# Altium footprint library 7464100.PcbLib: 1 footprints
Each footprint in its own frame and in the unit in brackets; x right, y up, seen from the top. Pads: shape width x height; smd on the part's side, far side on the other; paste and mask are expansions set on the pad; w line width, h text height; cw(c..) or ccw(c..) is an arc to the next point about the centre after c.
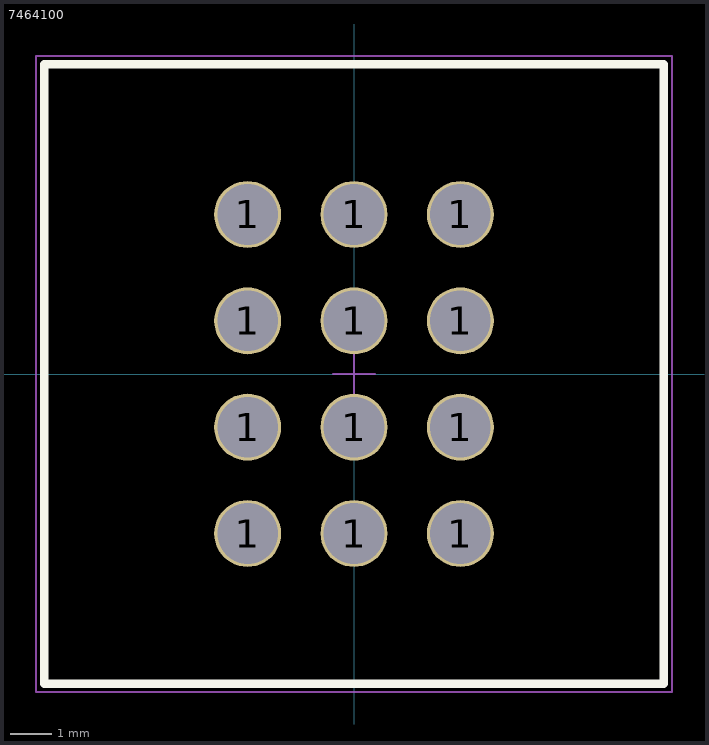
[diagram p0: the footprint, top view; thin cyan lines are the x and y axes]

## 7464100 [mm]
pads (12):
  round 1.6 hole 1.45: 1(-2.54,-3.81) 1(-2.54,-1.27) 1(-2.54,1.27) 1(-2.54,3.81) 1(0,-3.81) 1(0,-1.27) 1(0,1.27) 1(0,3.81) 1(2.54,-3.81) 1(2.54,-1.27) 1(2.54,1.27) 1(2.54,3.81)
Top Overlay:
  lines w0.2: -7.4,-7.4 -7.4,7.4 7.4,7.4 7.4,-7.4 -7.4,-7.4
Top Assembly:
  lines w0.1: -7.4,-7.4 7.4,-7.4 7.4,7.4 -7.4,7.4 -7.4,-7.4
Top Courtyard:
  lines w0.05: -0.5,0 0.5,0 ; 0,-0.5 0,0.5 ; -7.6,-7.6 7.6,-7.6 7.6,7.6 -7.6,7.6 -7.6,-7.6
3D body "7464000 (rev1) v1 black.step": height 18.1, standoff -3.5, extent -7.385,-7.385 7.385,7.385